# Altium schematic symbol library SP1001-04.SchLib: 1 symbol
Pins are listed as number, name and electrical type; pins without a type are passive.

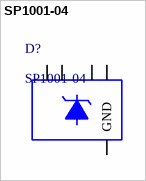
[diagram p0: symbol SP1001-04]

## SP1001-04
designator D?
pins: 1, 2 GND, 3, 4, 5